# Altium footprint library 2015-08-26_23-06-01.PcbLib: 3 footprints
Each footprint in its own frame and in the unit in brackets; x right, y up, seen from the top. Pads: shape width x height; smd on the part's side, far side on the other; paste and mask are expansions set on the pad; w line width, h text height; cw(c..) or ccw(c..) is an arc to the next point about the centre after c.
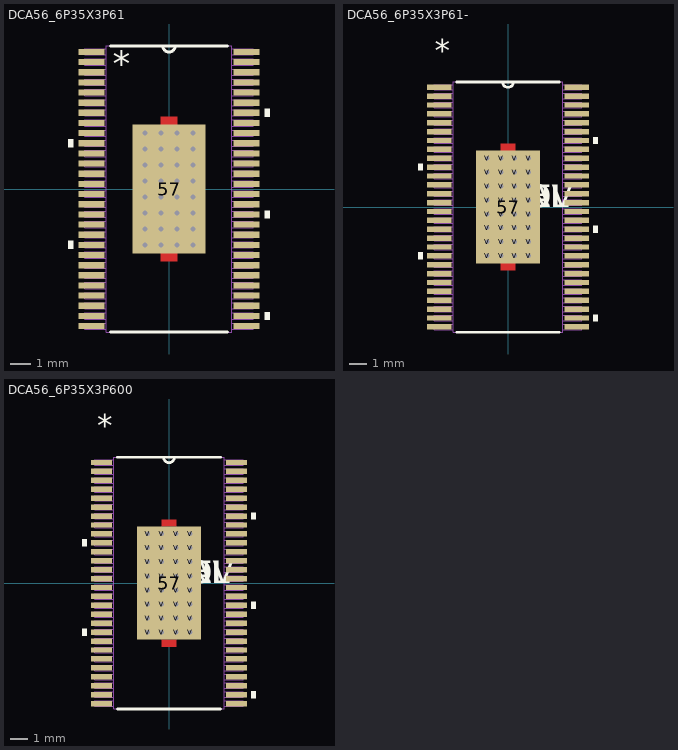
[diagram p0: the footprints below, top view; thin cyan lines are the x and y axes]

## DCA56_6P35X3P61 [mil]
pads (57):
  rect 50x12 smd mask+2: 1(-150.5,265.75) 2(-150.5,246.06) 3(-150.5,226.38) 4(-150.5,206.69) 5(-150.5,187.01) 6(-150.5,167.32) 7(-150.5,147.64) 8(-150.5,127.95) 9(-150.5,108.27) 10(-150.5,88.58) 11(-150.5,68.9) 12(-150.5,49.21) 13(-150.5,29.53) 14(-150.5,9.84) 15(-150.5,-9.84) 16(-150.5,-29.53) 17(-150.5,-49.21) 18(-150.5,-68.9) 19(-150.5,-88.58) 20(-150.5,-108.27) 21(-150.5,-127.95) 22(-150.5,-147.64) 23(-150.5,-167.32) 24(-150.5,-187.01) 25(-150.5,-206.69) 26(-150.5,-226.38) 27(-150.5,-246.06) 28(-150.5,-265.75) 29(150.5,-265.75) 30(150.5,-246.06) 31(150.5,-226.38) 32(150.5,-206.69) 33(150.5,-187.01) 34(150.5,-167.32) 35(150.5,-147.64) 36(150.5,-127.95) 37(150.5,-108.27) 38(150.5,-88.58) 39(150.5,-68.9) 40(150.5,-49.21) 41(150.5,-29.53) 42(150.5,-9.84) 43(150.5,9.84) 44(150.5,29.53) 45(150.5,49.21) 46(150.5,68.9) 47(150.5,88.58) 48(150.5,108.27) 49(150.5,127.95) 50(150.5,147.64) 51(150.5,167.32) 52(150.5,187.01) 53(150.5,206.69) 54(150.5,226.38) 55(150.5,246.06) 56(150.5,265.75)
  rect 142.13x250 smd mask-124.5: 57(0,0)
via -15.5,108.5 diameter 20 hole 10
via -46.5,108.5 diameter 20 hole 10
via 15.5,108.5 diameter 20 hole 10
via 46.5,108.5 diameter 20 hole 10
via -46.5,77.5 diameter 20 hole 10
via -15.5,77.5 diameter 20 hole 10
via 15.5,77.5 diameter 20 hole 10
via 46.5,77.5 diameter 20 hole 10
via -46.5,46.5 diameter 20 hole 10
via -15.5,46.5 diameter 20 hole 10
via 15.5,46.5 diameter 20 hole 10
via 46.5,46.5 diameter 20 hole 10
via -46.5,15.5 diameter 20 hole 10
via -15.5,15.5 diameter 20 hole 10
via 15.5,15.5 diameter 20 hole 10
via 46.5,15.5 diameter 20 hole 10
via -46.5,-15.5 diameter 20 hole 10
via -15.5,-15.5 diameter 20 hole 10
via 15.5,-15.5 diameter 20 hole 10
via 46.5,-15.5 diameter 20 hole 10
via -46.5,-46.5 diameter 20 hole 10
via -15.5,-46.5 diameter 20 hole 10
via 15.5,-46.5 diameter 20 hole 10
via 46.5,-46.5 diameter 20 hole 10
via 46.5,-77.5 diameter 20 hole 10
via 15.5,-77.5 diameter 20 hole 10
via -15.5,-77.5 diameter 20 hole 10
via -46.5,-77.5 diameter 20 hole 10
via -46.5,-108.5 diameter 20 hole 10
via -15.5,-108.5 diameter 20 hole 10
via 15.5,-108.5 diameter 20 hole 10
via 46.5,-108.5 diameter 20 hole 10
Top Layer:
  region: 15.75,125 -15.75,125 -15.75,139.96 15.75,139.96 15.75,125
  region: 15.75,-125 -15.75,-125 -15.75,-139.96 15.75,-139.96 15.75,-125
Top Overlay:
  region: -185.5,96.08 -195.5,96.08 -195.5,81.08 -185.5,81.08
  region: -185.5,-100.77 -195.5,-100.77 -195.5,-115.77 -185.5,-115.77
  region: 185.5,-238.56 195.5,-238.56 195.5,-253.56 185.5,-253.56
  region: 185.5,-41.71 195.5,-41.71 195.5,-56.71 185.5,-56.71
  region: 185.5,155.14 195.5,155.14 195.5,140.14 185.5,140.14
  lines w6: -113.73,-277.5 113.73,-277.5 ; -113.73,277.5 113.73,277.5 ; -12,277.5 ccw(c0,277.5) 12,277.5
  text "*" at -109.5,217.75 h50
Top Paste:
  drawing of 45 lines, arcs and shapes, not listed
Top Solder:
  region: 15.75,125 -15.75,125 -15.75,139.96 15.75,139.96 15.75,125
  region: 15.75,-125 -15.75,-125 -15.75,-139.96 15.75,-139.96 15.75,-125
  region: -73.56,116.37 -73.56,127.5 73.56,127.5 73.56,116.37
  region: -73.56,85.37 -73.56,100.63 73.56,100.63 73.56,85.37
  region: -73.56,54.37 -73.56,69.63 73.56,69.63 73.56,54.37
  region: -73.56,23.37 -73.56,38.63 73.56,38.63 73.56,23.37
  region: -73.56,-7.63 -73.56,7.63 73.56,7.63 73.56,-7.63
  region: -73.56,-38.63 -73.56,-23.37 73.56,-23.37 73.56,-38.63
  region: -73.56,-69.63 -73.56,-54.37 73.56,-54.37 73.56,-69.63
  region: -73.56,-100.63 -73.56,-85.37 73.56,-85.37 73.56,-100.63
  region: -73.56,-127.5 -73.56,-116.37 73.56,-116.37 73.56,-127.5
  region: -73.56,-127.5 -73.56,127.5 -54.37,127.5 -54.37,-127.5
  region: -23.37,-127.5 -23.37,127.5 -38.63,127.5 -38.63,-127.5
  region: 7.63,-127.5 7.63,127.5 -7.63,127.5 -7.63,-127.5
  region: 38.63,-127.5 38.63,127.5 23.37,127.5 23.37,-127.5
  region: 54.37,-127.5 54.37,127.5 73.56,127.5 73.56,-127.5
Mechanical 1:
  drawing of 229 lines, arcs and shapes, not listed
  text "*" at -109.5,217.75 h50

## DCA56_6P35X3P61- [mil]
pads (89):
  rect 54x12 smd: 1(-152.5,265.75) 2(-152.5,246.06) 3(-152.5,226.38) 4(-152.5,206.69) 5(-152.5,187.01) 6(-152.5,167.32) 7(-152.5,147.64) 8(-152.5,127.95) 9(-152.5,108.27) 10(-152.5,88.58) 11(-152.5,68.9) 12(-152.5,49.21) 13(-152.5,29.53) 14(-152.5,9.84) 15(-152.5,-9.84) 16(-152.5,-29.53) 17(-152.5,-49.21) 18(-152.5,-68.9) 19(-152.5,-88.58) 20(-152.5,-108.27) 21(-152.5,-127.95) 22(-152.5,-147.64) 23(-152.5,-167.32) 24(-152.5,-187.01) 25(-152.5,-206.69) 26(-152.5,-226.38) 27(-152.5,-246.06) 28(-152.5,-265.75) 29(152.5,-265.75) 30(152.5,-246.06) 31(152.5,-226.38) 32(152.5,-206.69) 33(152.5,-187.01) 34(152.5,-167.32) 35(152.5,-147.64) 36(152.5,-127.95) 37(152.5,-108.27) 38(152.5,-88.58) 39(152.5,-68.9) 40(152.5,-49.21) 41(152.5,-29.53) 42(152.5,-9.84) 43(152.5,9.84) 44(152.5,29.53) 45(152.5,49.21) 46(152.5,68.9) 47(152.5,88.58) 48(152.5,108.27) 49(152.5,127.95) 50(152.5,147.64) 51(152.5,167.32) 52(152.5,187.01) 53(152.5,206.69) 54(152.5,226.38) 55(152.5,246.06) 56(152.5,265.75)
  rect 142.13x250 smd mask-124.5: 57(0,0)
  round 20 / inner round 60 / far side round 20 hole 10: V(-46.5,-108.5) V(-46.5,-77.5) V(-46.5,-46.5) V(-46.5,-15.5) V(-46.5,15.5) V(-46.5,46.5) V(-46.5,77.5) V(-46.5,108.5) V(-15.5,-108.5) V(-15.5,-77.5) V(-15.5,-46.5) V(-15.5,-15.5) V(-15.5,15.5) V(-15.5,46.5) V(-15.5,77.5) V(-15.5,108.5) V(15.5,-108.5) V(15.5,-77.5) V(15.5,-46.5) V(15.5,-15.5) V(15.5,15.5) V(15.5,46.5) V(15.5,77.5) V(15.5,108.5) V(46.5,-108.5) V(46.5,-77.5) V(46.5,-46.5) V(46.5,-15.5) V(46.5,15.5) V(46.5,46.5) V(46.5,77.5) V(46.5,108.5)
Top Layer:
  region: 15.75,-125 -15.75,-125 -15.75,-139.96 15.75,-139.96 15.75,-125
  region: 15.75,125 -15.75,125 -15.75,139.96 15.75,139.96 15.75,125
Top Overlay:
  region: 189.5,155.14 199.5,155.14 199.5,140.14 189.5,140.14
  region: 189.5,-41.71 199.5,-41.71 199.5,-56.71 189.5,-56.71
  region: 189.5,-238.56 199.5,-238.56 199.5,-253.56 189.5,-253.56
  region: -189.5,-100.77 -199.5,-100.77 -199.5,-115.77 -189.5,-115.77
  region: -189.5,96.08 -199.5,96.08 -199.5,81.08 -189.5,81.08
  lines w6: -113.73,-277.5 113.73,-277.5 ; -113.73,277.5 113.73,277.5 ; -12,277.5 ccw(c0,277.5) 12,277.5
  text "TOL" at 0,0 h50
  text "VAL" at 0,0 h50
  text "DEV" at 0,0 h50
  text "PN" at 0,0 h50
  text "*" at -162.5,322.75 h50
Top Paste:
  drawing of 45 lines, arcs and shapes, not listed
Top Solder:
  region: 54.37,-127.5 54.37,127.5 73.56,127.5 73.56,-127.5
  region: 38.63,-127.5 38.63,127.5 23.37,127.5 23.37,-127.5
  region: 7.63,-127.5 7.63,127.5 -7.63,127.5 -7.63,-127.5
  region: -23.37,-127.5 -23.37,127.5 -38.63,127.5 -38.63,-127.5
  region: -73.56,-127.5 -73.56,127.5 -54.37,127.5 -54.37,-127.5
  region: -73.56,-127.5 -73.56,-116.37 73.56,-116.37 73.56,-127.5
  region: -73.56,-100.63 -73.56,-85.37 73.56,-85.37 73.56,-100.63
  region: -73.56,-69.63 -73.56,-54.37 73.56,-54.37 73.56,-69.63
  region: -73.56,-38.63 -73.56,-23.37 73.56,-23.37 73.56,-38.63
  region: -73.56,-7.63 -73.56,7.63 73.56,7.63 73.56,-7.63
  region: -73.56,23.37 -73.56,38.63 73.56,38.63 73.56,23.37
  region: -73.56,54.37 -73.56,69.63 73.56,69.63 73.56,54.37
  region: -73.56,85.37 -73.56,100.63 73.56,100.63 73.56,85.37
  region: -73.56,116.37 -73.56,127.5 73.56,127.5 73.56,116.37
  region: 15.75,-125 -15.75,-125 -15.75,-139.96 15.75,-139.96 15.75,-125
  region: 15.75,125 -15.75,125 -15.75,139.96 15.75,139.96 15.75,125
Mechanical 1:
  drawing of 229 lines, arcs and shapes, not listed
  text "RefDes2" at 0,0 h50
  text "*" at -162.5,322.75 h50

## DCA56_6P35X3P600 [mil]
pads (89):
  rect 46x12 smd: 1(-148.5,265.75) 2(-148.5,246.06) 3(-148.5,226.38) 4(-148.5,206.69) 5(-148.5,187.01) 6(-148.5,167.32) 7(-148.5,147.64) 8(-148.5,127.95) 9(-148.5,108.27) 10(-148.5,88.58) 11(-148.5,68.9) 12(-148.5,49.21) 13(-148.5,29.53) 14(-148.5,9.84) 15(-148.5,-9.84) 16(-148.5,-29.53) 17(-148.5,-49.21) 18(-148.5,-68.9) 19(-148.5,-88.58) 20(-148.5,-108.27) 21(-148.5,-127.95) 22(-148.5,-147.64) 23(-148.5,-167.32) 24(-148.5,-187.01) 25(-148.5,-206.69) 26(-148.5,-226.38) 27(-148.5,-246.06) 28(-148.5,-265.75) 29(148.5,-265.75) 30(148.5,-246.06) 31(148.5,-226.38) 32(148.5,-206.69) 33(148.5,-187.01) 34(148.5,-167.32) 35(148.5,-147.64) 36(148.5,-127.95) 37(148.5,-108.27) 38(148.5,-88.58) 39(148.5,-68.9) 40(148.5,-49.21) 41(148.5,-29.53) 42(148.5,-9.84) 43(148.5,9.84) 44(148.5,29.53) 45(148.5,49.21) 46(148.5,68.9) 47(148.5,88.58) 48(148.5,108.27) 49(148.5,127.95) 50(148.5,147.64) 51(148.5,167.32) 52(148.5,187.01) 53(148.5,206.69) 54(148.5,226.38) 55(148.5,246.06) 56(148.5,265.75)
  rect 142.13x250 smd mask-124.5: 57(0,0)
  round 20 / inner round 60 / far side round 20 hole 10: V(-46.5,-108.5) V(-46.5,-77.5) V(-46.5,-46.5) V(-46.5,-15.5) V(-46.5,15.5) V(-46.5,46.5) V(-46.5,77.5) V(-46.5,108.5) V(-15.5,-108.5) V(-15.5,-77.5) V(-15.5,-46.5) V(-15.5,-15.5) V(-15.5,15.5) V(-15.5,46.5) V(-15.5,77.5) V(-15.5,108.5) V(15.5,-108.5) V(15.5,-77.5) V(15.5,-46.5) V(15.5,-15.5) V(15.5,15.5) V(15.5,46.5) V(15.5,77.5) V(15.5,108.5) V(46.5,-108.5) V(46.5,-77.5) V(46.5,-46.5) V(46.5,-15.5) V(46.5,15.5) V(46.5,46.5) V(46.5,77.5) V(46.5,108.5)
Top Layer:
  region: 15.75,125 -15.75,125 -15.75,139.96 15.75,139.96 15.75,125
  region: 15.75,-125 -15.75,-125 -15.75,-139.96 15.75,-139.96 15.75,-125
Top Overlay:
  region: -181.5,96.08 -191.5,96.08 -191.5,81.08 -181.5,81.08
  region: -181.5,-100.77 -191.5,-100.77 -191.5,-115.77 -181.5,-115.77
  region: 181.5,-238.56 191.5,-238.56 191.5,-253.56 181.5,-253.56
  region: 181.5,-41.71 191.5,-41.71 191.5,-56.71 181.5,-56.71
  region: 181.5,155.14 191.5,155.14 191.5,140.14 181.5,140.14
  lines w6: -113.73,-277.5 113.73,-277.5 ; -113.73,277.5 113.73,277.5 ; -12,277.5 ccw(c0,277.5) 12,277.5
  text "*" at -158.5,322.75 h50
  text "PN" at 0,0 h50
  text "DEV" at 0,0 h50
  text "VAL" at 0,0 h50
  text "TOL" at 0,0 h50
Top Paste:
  drawing of 45 lines, arcs and shapes, not listed
Top Solder:
  region: 15.75,125 -15.75,125 -15.75,139.96 15.75,139.96 15.75,125
  region: 15.75,-125 -15.75,-125 -15.75,-139.96 15.75,-139.96 15.75,-125
  region: -73.56,116.37 -73.56,127.5 73.56,127.5 73.56,116.37
  region: -73.56,85.37 -73.56,100.63 73.56,100.63 73.56,85.37
  region: -73.56,54.37 -73.56,69.63 73.56,69.63 73.56,54.37
  region: -73.56,23.37 -73.56,38.63 73.56,38.63 73.56,23.37
  region: -73.56,-7.63 -73.56,7.63 73.56,7.63 73.56,-7.63
  region: -73.56,-38.63 -73.56,-23.37 73.56,-23.37 73.56,-38.63
  region: -73.56,-69.63 -73.56,-54.37 73.56,-54.37 73.56,-69.63
  region: -73.56,-100.63 -73.56,-85.37 73.56,-85.37 73.56,-100.63
  region: -73.56,-127.5 -73.56,-116.37 73.56,-116.37 73.56,-127.5
  region: -73.56,-127.5 -73.56,127.5 -54.37,127.5 -54.37,-127.5
  region: -23.37,-127.5 -23.37,127.5 -38.63,127.5 -38.63,-127.5
  region: 7.63,-127.5 7.63,127.5 -7.63,127.5 -7.63,-127.5
  region: 38.63,-127.5 38.63,127.5 23.37,127.5 23.37,-127.5
  region: 54.37,-127.5 54.37,127.5 73.56,127.5 73.56,-127.5
Mechanical 1:
  drawing of 229 lines, arcs and shapes, not listed
  text "*" at -158.5,322.75 h50
  text "RefDes2" at 0,0 h50